# Altium footprint library Connectors.PcbLib: 28 footprints (part 1 of 2)
Each footprint in its own frame and in the unit in brackets; x right, y up, seen from the top. Pads: shape width x height; smd on the part's side, far side on the other; paste and mask are expansions set on the pad; w line width, h text height; cw(c..) or ccw(c..) is an arc to the next point about the centre after c.
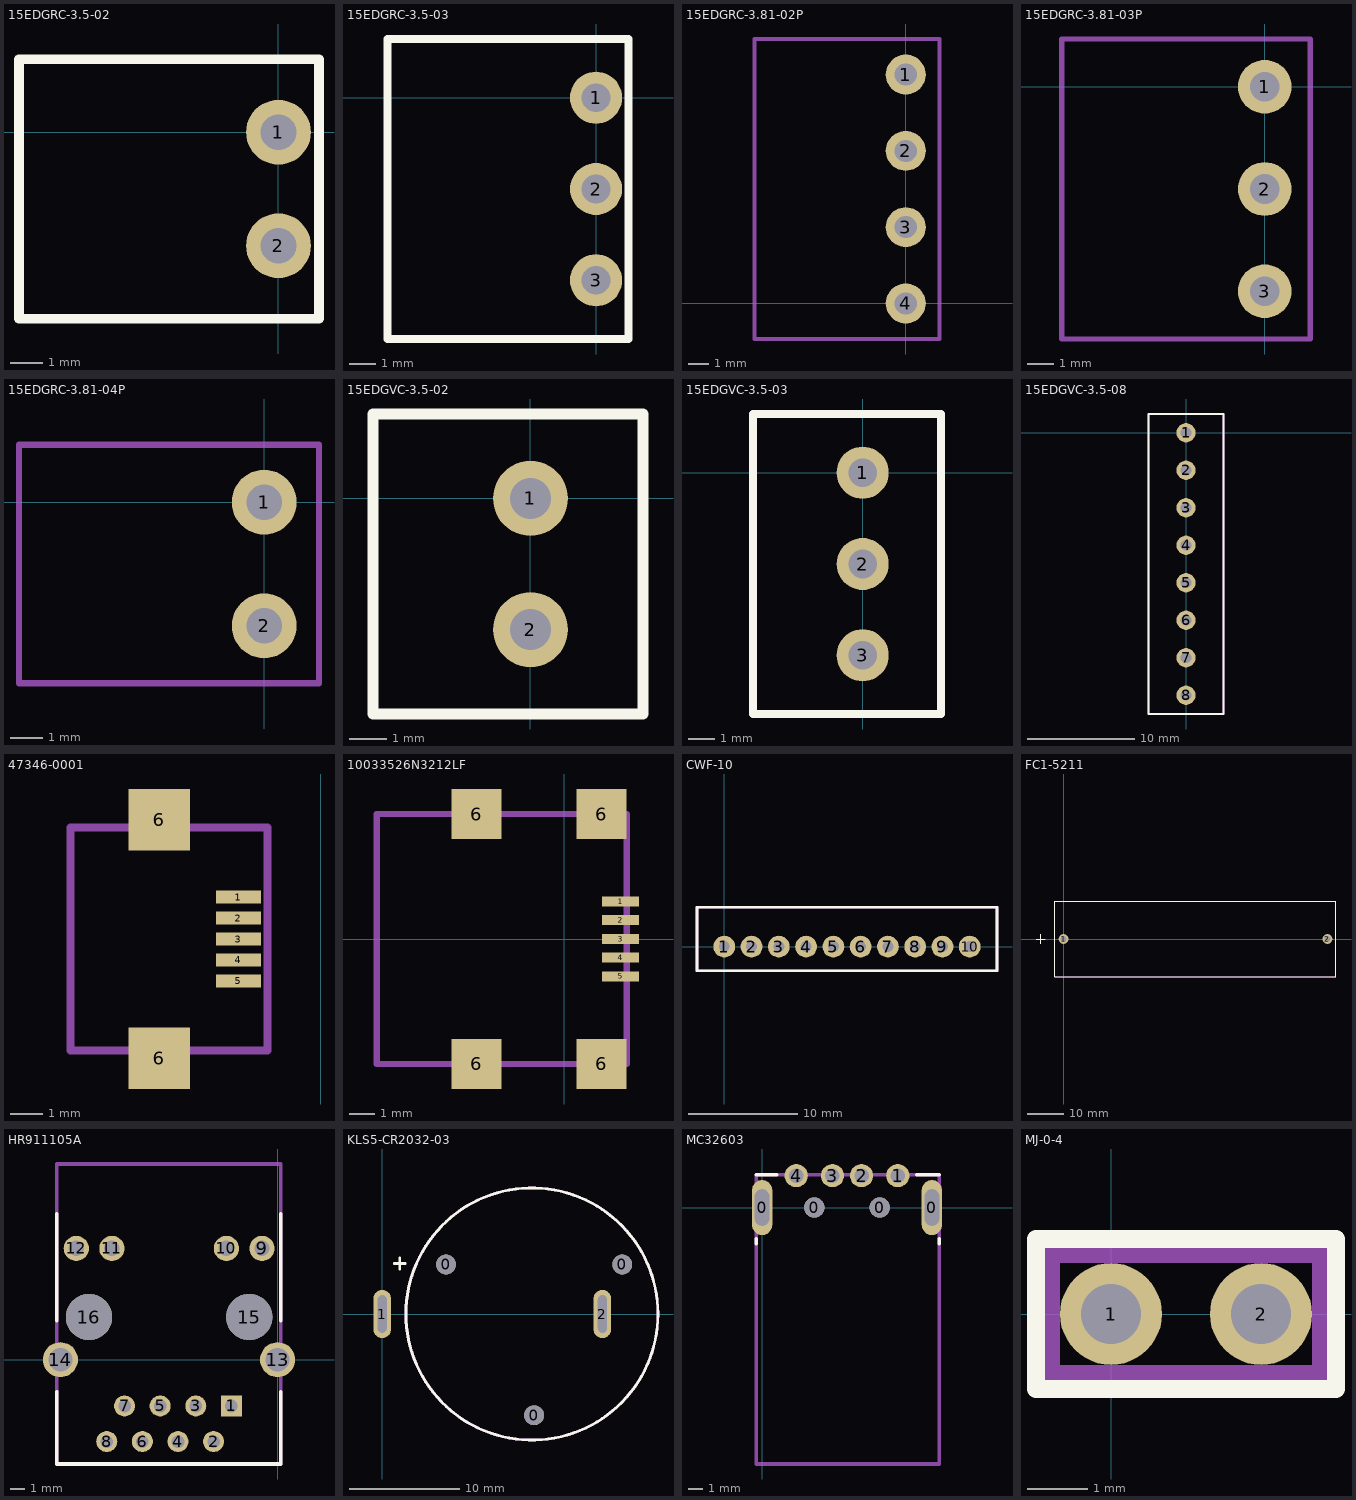
[diagram p0: the footprints below, top view; thin cyan lines are the x and y axes]

## 15EDGRC-3.5-02 [mm]
pads (2):
  round 2 hole 1.1: 1(0,0) 2(0,-3.5)
Top Overlay:
  lines w0.3: -8,-5.75 1.25,-5.75 1.25,2.25 -8,2.25 -8,-5.75
TopAssy:
  lines w0.2: -8,-5.75 -8,2.25 1.25,2.25 1.25,-5.75 -8,-5.75
3D body "User Library-15EDGRC-3_5-2.step": height 7.2, standoff -3.4, extent -8,-5.6 1.2,2.2

## 15EDGRC-3.5-03 [mm]
pads (3):
  round 2 hole 1.1: 1(0,0) 2(0,-3.5) 3(0,-7)
Top Overlay:
  lines w0.3: -8,-9.25 1.25,-9.25 1.25,2.25 -8,2.25 -8,-9.15
TopAssy:
  lines w0.2: -8,-9.25 -8,2.25 1.25,2.25 1.25,-9.25 -8,-9.25
3D body "User Library-15EDGRC-3_5-3.STEP": height 7.2, standoff -3.4, extent -8,-9.15 1.2,2.15

## 15EDGRC-3.81-02P [mm]
pads (4):
  round 2 hole 1.1: 1(0,11.43) 2(0,7.62) 3(0,3.81) 4(0,0)
TopAssy:
  lines w0.2: -7.56,-1.778 -7.56,13.208 1.69,13.208 1.69,-1.778 -7.56,-1.778

## 15EDGRC-3.81-03P [mm]
pads (3):
  round 2 hole 1.1: 1(0,0) 2(0,-3.81) 3(0,-7.62)
TopAssy:
  lines w0.2: -7.56,-9.398 -7.56,1.778 1.69,1.778 1.69,-9.398 -7.56,-9.398

## 15EDGRC-3.81-04P [mm]
pads (2):
  round 2 hole 1.1: 1(0,0) 2(0,-3.81)
TopAssy:
  lines w0.2: -7.56,-5.588 -7.56,1.778 1.69,1.778 1.69,-5.588 -7.56,-5.588

## 15EDGVC-3.5-02 [mm]
pads (2):
  round 2 hole 1.1: 1(0,0) 2(0,-3.5)
Top Overlay:
  lines w0.3: -4.2,-5.75 -4.2,2.25 3,2.25 3,-5.75 -4.2,-5.75
TopAssy:
  lines w0.2: -4.2,-5.75 3,-5.75 3,2.25 -4.2,2.25 -4.2,-5.75
3D body "15EDGVC-3.5-02P-14-00AH.STEP": height 9.3, standoff -3.5, extent -4.2,-5.6 3,2.2

## 15EDGVC-3.5-03 [mm]
pads (3):
  round 2 hole 1.1: 1(0,0) 2(0,-3.5) 3(0,-7)
Top Overlay:
  lines w0.3: -4.2,-9.25 3,-9.25 3,2.25 -4.2,2.25 -4.2,-9.25
TopAssy:
  lines w0.2: -4.2,-9.25 -4.2,2.25 3,2.25 3,-9.25 -4.2,-9.25
3D body "15EDGVC-3.5-03P-14-00AH.STEP": height 9.3, standoff -3.5, extent -4.2,-9.1 3,2.2

## 15EDGVC-3.5-08 [mm]
pads (8):
  round 1.8 hole 1: 1(0,0) 2(0,-3.5) 3(0,-7) 4(0,-10.5) 5(0,-14) 6(0,-17.5) 7(0,-21) 8(0,-24.5)
Top Overlay:
  lines w0.2: -3.5,-26.25 3.5,-26.25 3.5,1.75 -3.5,1.75 -3.5,-26.25
TopAssy:
  lines w0.2: -3.5,-26.25 3.5,-26.25 3.5,1.75 -3.5,1.75 -3.5,-26.25

## 47346-0001 [mm]
pads (7):
  rect 1.4x0.4 smd: 1(-2.55,12.6) 2(-2.55,11.95) 3(-2.55,11.3) 4(-2.55,10.65) 5(-2.55,10)
  rect 1.9x1.9 smd: 6(-5,7.6) 6(-5,15)
TopAssy:
  lines w0.25: -7.75,7.85 -7.75,14.75 -1.65,14.75 -1.65,7.85 -7.75,7.85
3D body "User Library-Micro USB.STEP": height 2.72, standoff -0.22, extent -7.58,7.31 -2.15,15.29

## 10033526N3212LF [mm]
pads (9):
  rect 1.5x0.4 smd: 1(2.25,1.5) 2(2.25,0.75) 3(2.25,0) 4(2.25,-0.75) 5(2.25,-1.5)
  rect 2x2 smd: 6(-3.5,-5) 6(-3.5,5) 6(1.5,-5) 6(1.5,5)
TopAssy:
  lines w0.25: -7.5,-5 2.5,-5 2.5,5 -7.5,5 -7.5,-5
3D body "User Library-UX60-MB-5ST.STEP": height 4.7, standoff -0.4, extent -6.65,-4.95 2.35,4.95

## CWF-10 [mm]
pads (10):
  round 2 hole 1: 1(0,0) 2(2.5,0) 3(5,0) 4(7.5,0) 5(10,0) 6(12.5,0) 7(15,0) 8(17.5,0) 9(20,0) 10(22.5,0)
Top Overlay:
  lines w0.254: -2.5,-2.2 -2.5,3.6 25,3.6 25,-2.2 -2.5,-2.2
TopAssy:
  lines w0.254: -2.5,-2.2 -2.5,3.5 -2.5,3.6 25,3.6 25,-2.2 -2.5,-2.2
3D body "User Library-CWF-10.step": height 7, standoff -3.5, extent -2.5,-2.2 25,3.55

## FC1-5211 [mm] "Батарейный отсек"
pads (2):
  round 2.7 hole 1.7: 1(0,0) 2(72.898,0)
Top Overlay:
  lines w0.254: -7.62,0 -5.08,0 ; -6.35,-1.27 -6.35,1.27 ; -2.379,-10.4 75.271,-10.4 75.271,10.4 -2.379,10.4 -2.379,-10.4
TopAssy:
  lines w0.254: -2.379,-10.4 75.271,-10.4 75.271,10.4 -2.379,10.4 -2.379,-10.4
3D body "User Library-18650 Full.STEP": height 21.65, standoff -3.83, extent -2.379,-10.4 75.271,10.4

## HR911105A [mm]
pads (16):
  rect 1.5x1.5 hole 0.9: 1(-3.32,-3.29)
  round 1.5 hole 0.9: 2(-4.59,-5.83) 3(-5.86,-3.29) 4(-7.13,-5.83) 5(-8.4,-3.29) 6(-9.67,-5.83) 7(-10.94,-3.29) 8(-12.21,-5.83)
  round 1.8 hole 1.1 paste+0: 9(-1.135,7.95) 10(-3.675,7.95) 11(-11.845,7.95) 12(-14.385,7.95)
  round 2.5 hole 1.7: 13(-0.025,0.01) 14(-15.515,0.01)
  round 3.3 hole 3.3 unplated: 15(-2.05,3.05) 16(-13.48,3.05)
Top Overlay:
  lines w0.254: -15.768,-2.29 -15.765,-2.293 -15.765,-7.43 0.205,-7.43 0.205,-2.29 ; -15.765,2.79 -15.765,10.41 ; 0.205,2.79 0.205,10.41
TopAssy:
  lines w0.254: -15.765,-7.43 -15.765,13.97 0.205,13.97 0.205,-7.43 -15.765,-7.43
3D body "User Library-HR911105A.step": height 14, standoff -2.5, extent -15.72,-7.43 0.16,13.97

## KLS5-CR2032-03 [mm]
pads (5):
  round 1.8 hole 1.8 unplated: 0(5.8,4.5) 0(13.8,-9.2) 0(21.8,4.5)
  oval 1.6x4.4 hole 0.8 slot 3.4 at 90 deg: 1(0,0) 2(20,0)
Top Overlay:
  circle w0.254: c13.6,0 r11.45
  lines w0.254: 1.1,4.6 2.1,4.6 ; 1.6,4.1 1.6,5.1
TopAssy:
  circle w0.254: c13.6,0 r11.45
3D body "KLS5-CR2032.stp": height 9.91, standoff -3.3, extent -2.3,-11.45 25.2,11.45

## MC32603 [mm]
pads (8):
  oval 1.4x3.8 hole 1 slot 2.5 at 90 deg: 0(0,0) 0(11.7,0)
  round 1.4 hole 1.4 unplated: 0(3.6,0) 0(8.1,0)
  round 1.6 hole 1: 1(9.35,2.2) 2(6.85,2.2) 3(4.85,2.2) 4(2.35,2.2)
Top Overlay:
  lines w0.254: -0.403,-2.15 -0.4,-2.5 ; -0.403,2.25 1,2.25 ; 10.65,2.25 12.203,2.25 ; 12.2,-2.15 12.203,-2.5
Mechanical 2 (Mech3):
  lines w0.254: -0.403,-17.675 -0.403,2.25 12.203,2.25 12.203,-17.675 -0.403,-17.675
3D body "usb_a-usb_a-lp-c.stp": height 3.3, standoff -2.5, extent -0.403,-17.675 12.203,2.25

## MJ-0-4 [mm]
pads (2):
  round 1.7 hole 1 unplated: 1(0,0) 2(2.5,0)
Top Overlay:
  lines w0.3: -1.25,-1.25 3.75,-1.25 3.75,1.25 -1.25,1.25 -1.25,0 -1.25,-1.25
TopAssy:
  lines w0.3: -1,-1 -1,1 3.5,1 3.5,-1 -1,-1